# Altium footprint library SOT-563.PcbLib: 1 footprints
Each footprint in its own frame and in the unit in brackets; x right, y up, seen from the top. Pads: shape width x height; smd on the part's side, far side on the other; paste and mask are expansions set on the pad; w line width, h text height; cw(c..) or ccw(c..) is an arc to the next point about the centre after c.
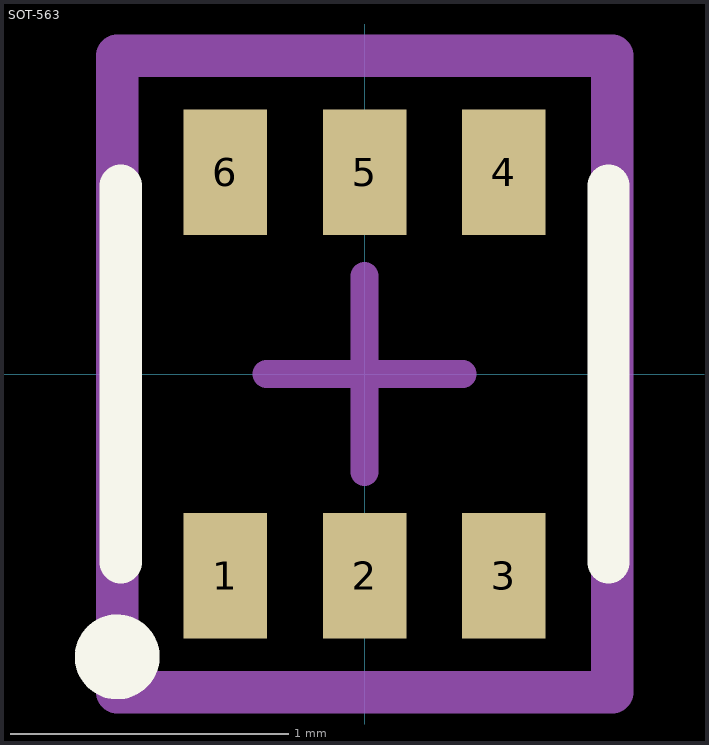
[diagram p0: the footprint, top view; thin cyan lines are the x and y axes]

## SOT-563 [mm]
pads (6):
  rect 0.3x0.45 smd: 1(-0.5,-0.725) 2(0,-0.725) 3(0.5,-0.725) 4(0.5,0.725) 5(0,0.725) 6(-0.5,0.725)
Top Overlay:
  circle w0.152: c-0.889,-1.016 r0.076
  lines w0.152: -0.876,-0.676 -0.876,0.676 ; 0.876,-0.676 0.876,0.676
Top Designator:
  text ".Designator" at -7.618,-0.406 h1.52
Bottom Designator:
  lines w0.152: -0.889,-1.143 0.889,-1.143 0.889,1.143 -0.889,1.143 -0.889,-1.143
Top Component Center:
  lines w0.1: -0.353,0 0.353,0 ; 0,-0.353 0,0.353
3D body "User Library-SOT-563.step": height 0.58, standoff 0, extent -0.8,-0.813 0.8,0.813